# EAGLE library part TXB0106 (library ICs)
6bit Bidirectional voltage level shifter with 15kv ESD prtection.
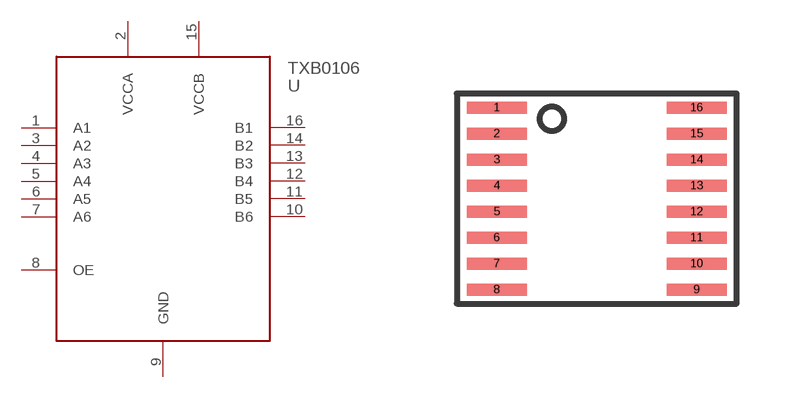
[diagram p45: symbol with the pads of SSOP16-4.5MM; footprint SSOP16-4.5MM]

Designator prefix U

## TXB0106PW (FARNELL: 1694679; HEIGHT: 1.3; PRICE_PER: 1.09; VALUE: TXB0106)  [SSOP16-4.5MM]
1  A1
2  VCCA
3  A2
4  A3
5  A4
6  A5
7  A6
8  OE
9  GND
10  B6
11  B5
12  B4
13  B3
14  B2
15  VCCB
16  B1

## Footprint SSOP16-4.5MM (pad centres in mm)
smd 1.5 x 0.3: 1 -2.5,2.275; 2 -2.5,1.625; 3 -2.5,0.975; 4 -2.5,0.325; 5 -2.5,-0.325; 6 -2.5,-0.975; 7 -2.5,-1.625; 8 -2.5,-2.275; 9 2.5,-2.275; 10 2.5,-1.625; 11 2.5,-0.975; 12 2.5,-0.325; 13 2.5,0.325; 14 2.5,0.975; 15 2.5,1.625; 16 2.5,2.275